# Altium integrated library Dallas Communication Error Detection Cct.IntLib: 1 symbol
Pins are listed as number, name and electrical type; pins without a type are passive.

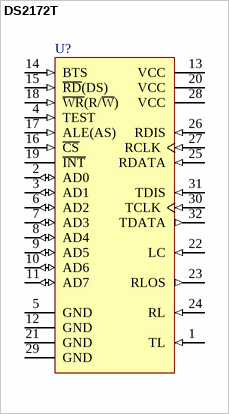
[diagram p0: symbol DS2172T]

## DS2172T
designator U?
Bit Error Rate Tester; Published: 13-Oct-2000; LatestRevisionDate: 13-Apr-2006; LatestRevisionNote: IPC-7351 Footprint Added.; DatasheetVersion: 27-Feb-1998; PackageReference: TQFP32; Publisher: Altium Limited; PackageDescription: 32-Pin Thin Quad Flat Pack 0.8 mm Pitch; ComponentLink1Description: Manufacturer Link; ComponentLink1URL: http://www.maxim-ic.com/; ComponentLink2Description: Datasheet; ComponentLink2URL: http://pdfserv.maxim-ic.com/en/ds/DS2172.pdf
footprint TQFP32_N (Thin QFP, 32-Leads, Body 7x7mm, Pitch 0.8mm, IPC Medium Density)
footprint TQFP32_L (Thin QFP, 32-Leads, Body 7x7mm, Pitch 0.8mm, IPC High Density)
footprint TQFP32_M (Thin QFP, 32-Leads, Body 7x7mm, Pitch 0.8mm, IPC Low Density)
pins: 1 TL (in), 2 AD0 (io), 3 AD1 (io), 4 TEST (in), 5 GND (power), 6 AD2 (io), 7 AD3 (io), 8 AD4 (io), 9 AD5 (io), 10 AD6 (io), 11 AD7 (io), 12 GND (power), 13 VCC (power), 14 BTS (in), 15 ~{RD}(DS) (in), 16 ~{CS} (in), 17 ALE(AS) (in), 18 ~{WR}(R/~{W}) (in), 19 ~{INT} (oc), 20 VCC (power), 21 GND (power), 22 LC (in), 23 RLOS (out), 24 RL (in), 25 RDATA (in), 26 RDIS (in), 27 RCLK (in), 28 VCC (power), 29 GND (power), 30 TCLK (in), 31 TDIS (in), 32 TDATA (out)